# EAGLE library part TPS796XX (library SOT223-6)
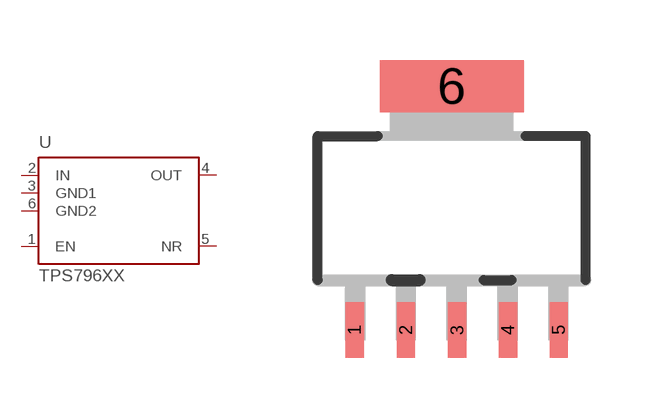
[diagram p0: symbol with the pads of SOT223-6; footprint SOT223-6]

Designator prefix -

## TPS796XX  [SOT223-6]
1  EN
2  IN
3  GND1  in
4  OUT
5  NR
6  GND2

## Footprint SOT223-6 (pad centres in mm)
smd 0.457 x 1.397: 1 -2.427,-4.32; 2 -1.143,-4.32; 3 0.141,-4.32; 4 1.411,-4.32; 5 2.681,-4.32
smd 3.6 x 1.3: 6 0,1.78